# Altium schematic symbol library XTAL,16MHz,7pF,SMD.Schlib: 1 symbol
Pins are listed as number, name and electrical type; pins without a type are passive.

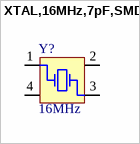
[diagram p0: symbol XTAL,16MHz,7pF,SMD]

## XTAL,16MHz,7pF,SMD
designator Y?, comment 16MHz
16MHz ±10ppm Crystal 7pF 60 Ohms 4-SMD, No Lead
pins: 1 OSC1, 2 GND, 3 OSC2, 4 GND